# Altium footprint library Diode.PcbLib: 31 footprints (part 1 of 2)
Each footprint in its own frame and in the unit in brackets; x right, y up, seen from the top. Pads: shape width x height; smd on the part's side, far side on the other; paste and mask are expansions set on the pad; w line width, h text height; cw(c..) or ccw(c..) is an arc to the next point about the centre after c.
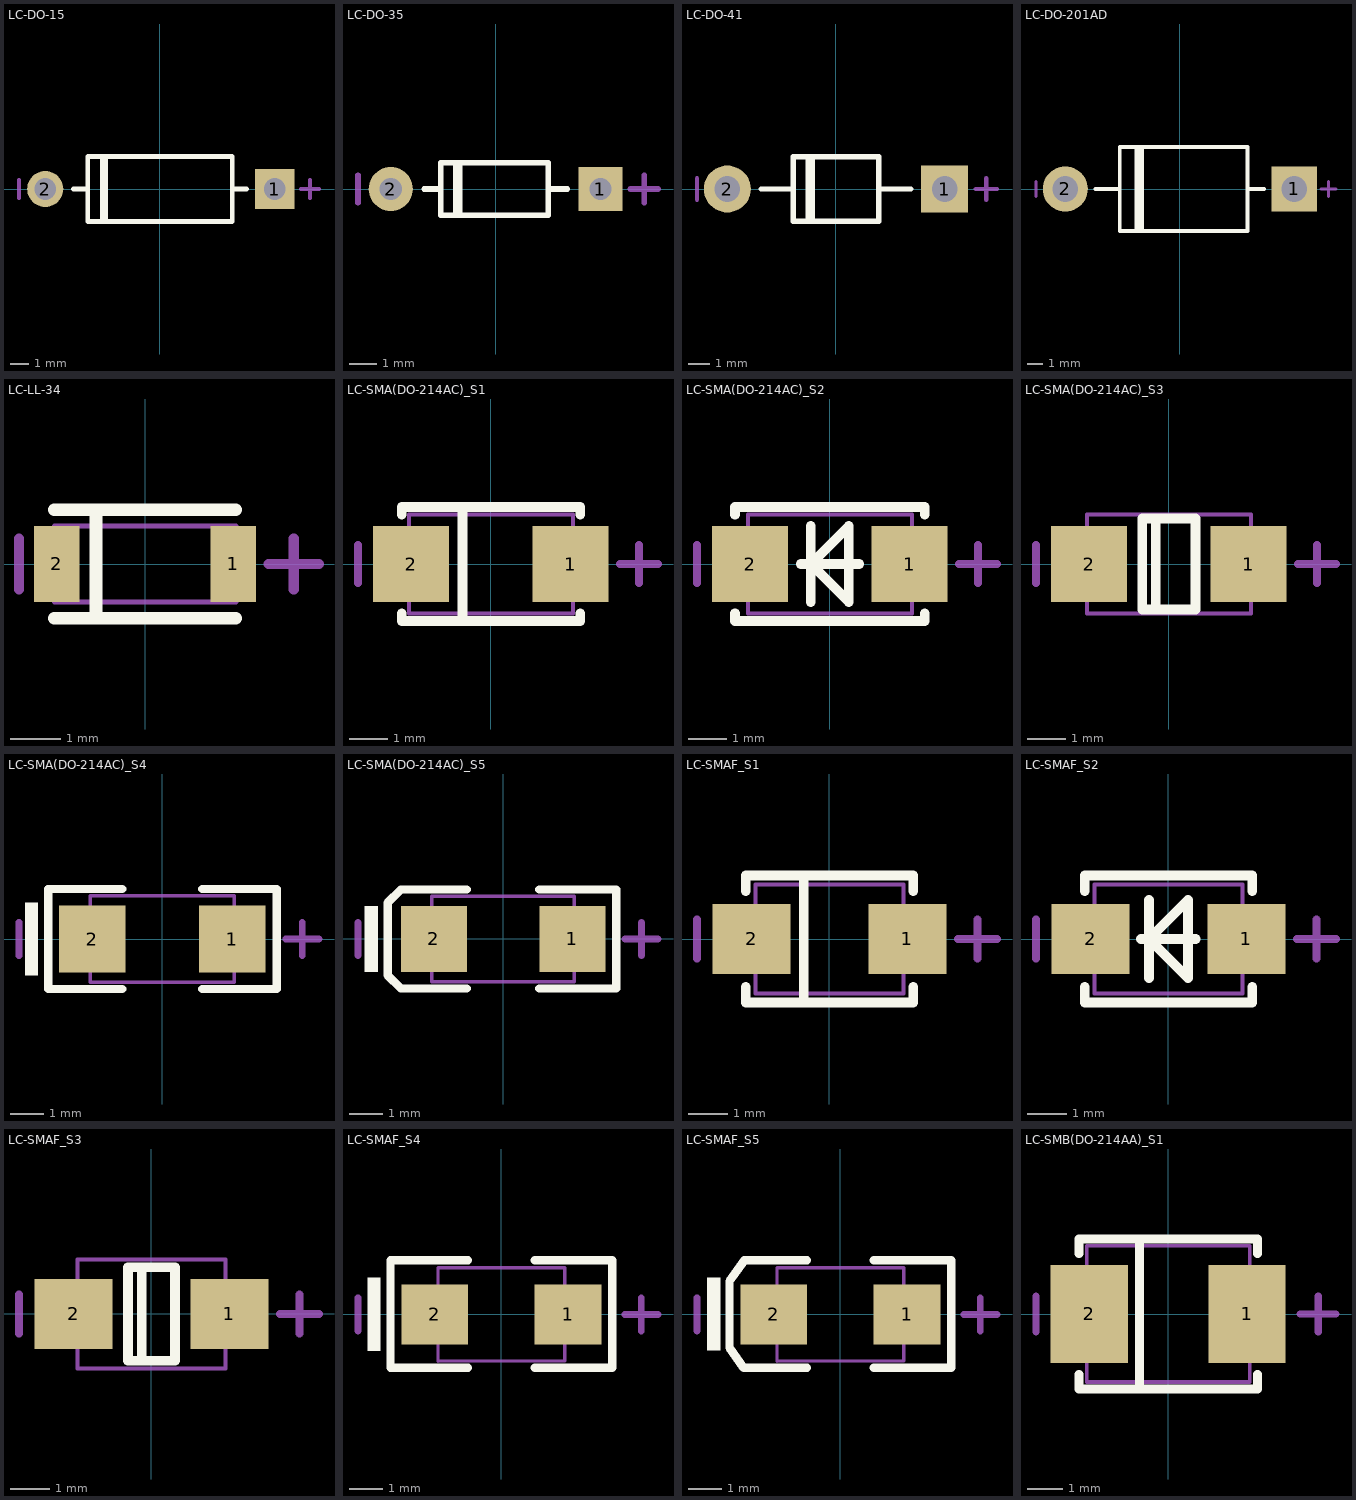
[diagram p0: the footprints below, top view; thin cyan lines are the x and y axes]

## LC-DO-15 [mm]
pads (2):
  rect 2.2x2.2 hole 1.2: 1(6.35,0)
  round 2 hole 1.2: 2(-6.35,0)
Top Overlay:
  lines w0.254: -4.8,0 -4,0 ; -3.2,-1.8 -3.2,1.8 ; -3,-1.8 -3,1.8 ; 4,0 4.8,0 ; -4,-1.8 -4,1.8 4,1.8 4,-1.8 -4,-1.8
Mechanical 15:
  lines w0.203: -7.8,-0.5 -7.8,0.5 ; 7.8,0 8.8,0 ; 8.3,-0.5 8.3,0.5
3D body "DO-15.STEP": height 4.03, standoff -1.5, extent -6.875,-1.749 6.875,1.748

## LC-DO-35 [mm]
pads (2):
  rect 1.6x1.6 hole 0.8: 1(3.81,0)
  round 1.6 hole 0.8: 2(-3.81,0)
Top Overlay:
  lines w0.2: -2.6,0 -2.001,0 ; -1.448,-0.95 -1.448,0.95 ; -1.3,-0.95 -1.3,0.95 ; 1.899,-0.95 -2.001,-0.95 -2.001,0.95 1.899,0.95 ; 1.911,-0.95 1.911,0.95 ; 1.911,0 2.6,0
Mechanical 15:
  lines w0.203: -5,-0.5 -5,0.5 ; 4.9,0 5.9,0 ; 5.4,-0.5 5.4,0.5
3D body "DO-35.STEP": height 1.92, standoff -1.9, extent -4.098,-0.888 4.072,0.914

## LC-DO-41 [mm]
pads (2):
  rect 2.2x2.2 hole 1.2: 1(5.08,0)
  round 2.2 hole 1.2: 2(-5.08,0)
Top Overlay:
  lines w0.254: -3.5,0 -2,0 ; -1.3,-1.4 -1.3,1.5 ; -1.1,-1.5 -1.1,1.4 ; 2,0 3.5,0 ; -2,-1.5 -2,1.5 2,1.5 2,-1.5 -2,-1.5
Mechanical 15:
  lines w0.203: -6.5,-0.5 -6.5,0.5 ; 6.53,0 7.53,0 ; 7.03,-0.5 7.03,0.5
3D body "DO-41.STEP": height 3.35, standoff -2, extent -5.51,-1.35 5.51,1.35

## LC-DO-201AD [mm]
pads (2):
  rect 3x3 hole 1.7: 1(7.62,0)
  round 3 hole 1.7: 2(-7.62,0)
Top Overlay:
  lines w0.254: -5.6,0 -4,0 ; -2.9,-2.8 -2.9,2.8 ; -2.7,-2.8 -2.7,2.8 ; -2.5,-2.8 -2.5,2.8 ; 4.5,0 5.6,0 ; -4,-2.8 4.5,-2.8 4.5,2.8 -4,2.8 -4,-2.8
Mechanical 15:
  lines w0.203: -9.57,-0.5 -9.57,0.5 ; 9.4,0 10.4,0 ; 9.9,-0.5 9.9,0.5
3D body "DO-201AD.STEP": height 6.6, standoff -5, extent -8.28,-2.8 8.28,2.8

## LC-LL-34 [mm]
pads (2):
  rect 0.9x1.5 smd: 1(1.75,0) 2(-1.75,0)
Top Overlay:
  lines w0.254: -1.8,-1.075 1.8,-1.075 ; -1.8,1.075 1.8,1.075 ; -0.975,-1.075 -0.975,1.075
Mechanical 13:
  lines w0.1: -1.8,-0.75 1.8,-0.75 1.8,0.75 -1.8,0.75 -1.8,-0.75
Mechanical 15:
  lines w0.203: -2.5,-0.5 -2.5,0.5 ; 2.45,0 3.45,0 ; 2.95,-0.5 2.95,0.5

## LC-SMA(DO-214AC)_S1 [mm]
pads (2):
  rect 2x2 smd: 1(2.1,0) 2(-2.1,0)
Top Overlay:
  lines w0.254: -2.35,-1.3 -2.35,-1.5 2.35,-1.5 2.35,-1.3 ; -2.35,1.3 -2.35,1.5 2.35,1.5 2.35,1.3 ; -0.75,-1.5 -0.75,1.5
Mechanical 13:
  lines w0.1: -2.16,-1.3 -2.16,1.3 2.16,1.3 2.16,-1.3 -2.16,-1.3
Mechanical 15:
  lines w0.203: -3.5,-0.5 -3.5,0.5 ; 3.4,0 4.4,0 ; 3.9,-0.5 3.9,0.5

## LC-SMA(DO-214AC)_S2 [mm]
pads (2):
  rect 2x2 smd: 1(2.1,0) 2(-2.1,0)
Top Overlay:
  lines w0.254: -2.5,-1.3 -2.5,-1.5 2.5,-1.5 2.5,-1.3 ; -2.5,1.3 -2.5,1.5 2.5,1.5 2.5,1.3 ; -0.77,0 0.77,0 ; -0.5,-1 -0.5,1 ; -0.5,0 0.5,-1 0.5,1 -0.5,0
Mechanical 13:
  lines w0.1: -2.16,-1.3 2.16,-1.3 2.16,1.3 -2.16,1.3 -2.16,-1.3
Mechanical 15:
  lines w0.203: -3.5,-0.5 -3.5,0.5 ; 3.4,0 4.4,0 ; 3.9,-0.5 3.9,0.5

## LC-SMA(DO-214AC)_S3 [mm]
pads (2):
  rect 2x2 smd: 1(2.1,0) 2(-2.1,0)
Top Overlay:
  lines w0.254: -0.35,-1.2 -0.35,1.2 ; -0.7,-1.2 0.7,-1.2 0.7,1.2 -0.7,1.2 -0.7,-1.2
Mechanical 13:
  lines w0.1: -2.16,-1.3 2.16,-1.3 2.16,1.3 -2.16,1.3 -2.16,-1.3
Mechanical 15:
  lines w0.203: -3.5,-0.5 -3.5,0.5 ; 3.4,0 4.4,0 ; 3.9,-0.5 3.9,0.5

## LC-SMA(DO-214AC)_S4 [mm]
pads (2):
  rect 2x2 smd: 1(2.1,0) 2(-2.1,0)
Top Overlay:
  rectangle: -4.125,-1.1 -3.725,1.1
  lines w0.254: -3.43,1.5 -1.2,1.5 ; -3.429,1.5 -3.429,-1.5 -1.199,-1.5 ; 1.201,-1.5 3.431,-1.5 3.431,1.5 1.201,1.5
Mechanical 13:
  lines w0.1: -2.16,-1.3 -2.16,1.3 2.16,1.3 2.16,-1.3 -2.16,-1.3
Mechanical 15:
  lines w0.203: -4.3,-0.5 -4.3,0.5 ; 3.7,0 4.7,0 ; 4.2,-0.5 4.2,0.5

## LC-SMA(DO-214AC)_S5 [mm]
pads (2):
  rect 2x2 smd: 1(2.1,0) 2(-2.1,0)
Top Overlay:
  rectangle: -4.2,-1 -3.8,1
  lines w0.254: -1.1,-1.5 -3.1,-1.5 -3.5,-1.1 -3.5,1.1 -3.1,1.5 -1.1,1.5 ; 1.1,-1.5 3.431,-1.5 3.431,1.5 1.1,1.5
Mechanical 13:
  lines w0.1: -2.16,-1.3 2.16,-1.3 2.16,1.3 -2.16,1.3 -2.16,-1.3
Mechanical 15:
  lines w0.203: -4.4,-0.5 -4.4,0.5 ; 3.7,0 4.7,0 ; 4.2,-0.5 4.2,0.5

## LC-SMAF_S1 [mm]
pads (2):
  rect 2x1.8 smd: 1(2,0) 2(-2,0)
Top Overlay:
  lines w0.254: -2.15,-1.23 -2.15,-1.625 2.15,-1.625 2.15,-1.23 ; -2.15,1.23 -2.15,1.625 2.15,1.625 2.15,1.23 ; -0.66,-1.625 -0.66,1.625
Mechanical 13:
  lines w0.1: -1.9,-1.4 1.9,-1.4 1.9,1.4 -1.9,1.4 -1.9,-1.4
Mechanical 15:
  lines w0.203: -3.4,-0.5 -3.4,0.5 ; 3.3,0 4.3,0 ; 3.8,-0.5 3.8,0.5

## LC-SMAF_S2 [mm]
pads (2):
  rect 2x1.8 smd: 1(2,0) 2(-2,0)
Top Overlay:
  lines w0.254: -2.15,-1.23 -2.15,-1.625 2.15,-1.625 2.15,-1.23 ; -2.15,1.23 -2.15,1.625 2.15,1.625 2.15,1.23 ; -0.7,0 0.7,0 ; -0.5,-1 -0.5,1 ; -0.5,0 0.5,-1 0.5,1 -0.5,0
Mechanical 13:
  lines w0.1: -1.9,-1.4 -1.9,1.4 1.9,1.4 1.9,-1.4 -1.9,-1.4
Mechanical 15:
  lines w0.203: -3.4,-0.5 -3.4,0.5 ; 3.3,0 4.3,0 ; 3.8,-0.5 3.8,0.5

## LC-SMAF_S3 [mm]
pads (2):
  rect 2x1.8 smd: 1(2,0) 2(-2,0)
Top Overlay:
  lines w0.254: -0.25,-1.2 -0.25,1.2 ; -0.6,-1.2 0.6,-1.2 0.6,1.2 -0.6,1.2 -0.6,-1.2
Mechanical 13:
  lines w0.1: -1.9,-1.4 1.9,-1.4 1.9,1.4 -1.9,1.4 -1.9,-1.4
Mechanical 15:
  lines w0.203: -3.4,-0.5 -3.4,0.5 ; 3.3,0 4.3,0 ; 3.8,-0.5 3.8,0.5

## LC-SMAF_S4 [mm]
pads (2):
  rect 2x1.8 smd: 1(2,0) 2(-2,0)
Top Overlay:
  rectangle: -4.021,-1.1 -3.621,1.1
  lines w0.254: -1,-1.6 -3.325,-1.6 -3.325,1.625 -1,1.625 ; 1,-1.6 3.325,-1.6 3.325,1.625 1,1.625
Mechanical 13:
  lines w0.1: -1.9,-1.4 1.9,-1.4 1.9,1.4 -1.9,1.4 -1.9,-1.4
Mechanical 15:
  lines w0.203: -4.3,-0.5 -4.3,0.5 ; 3.7,0 4.7,0 ; 4.2,-0.5 4.2,0.5

## LC-SMAF_S5 [mm]
pads (2):
  rect 2x1.8 smd: 1(2,0) 2(-2,0)
Top Overlay:
  rectangle: -3.996,-1.088 -3.596,1.112
  lines w0.254: -1,-1.6 -2.9,-1.6 -3.325,-1 -3.325,1 -2.882,1.625 -1,1.625 ; 1,-1.6 3.325,-1.6 3.325,1.625 1,1.625
Mechanical 13:
  lines w0.1: -1.9,-1.4 1.9,-1.4 1.9,1.4 -1.9,1.4 -1.9,-1.4
Mechanical 15:
  lines w0.203: -4.3,-0.5 -4.3,0.5 ; 3.7,0 4.7,0 ; 4.2,-0.5 4.2,0.5

## LC-SMB(DO-214AA)_S1 [mm]
pads (2):
  rect 2.159x2.743 smd: 1(2.21,0) 2(-2.21,0)
Top Overlay:
  lines w0.254: -2.5,-1.7 -2.5,-2.1 2.5,-2.1 2.5,-1.7 ; -2.5,1.7 -2.5,2.1 2.5,2.1 2.5,1.7 ; -0.8,-2.1 -0.8,2.1
Mechanical 13:
  lines w0.1: -2.285,-1.905 2.285,-1.905 2.285,1.905 -2.285,1.905 -2.285,-1.905
Mechanical 15:
  lines w0.203: -3.7,-0.5 -3.7,0.5 ; 3.7,0 4.7,0 ; 4.2,-0.5 4.2,0.5